# Altium schematic symbol library DROSEL_Synphaze.SchLib: 1 symbol
Pins are listed as number, name and electrical type; pins without a type are passive.

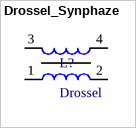
[diagram p0: symbol Drossel_Synphaze]

## Drossel_Synphaze
designator L?, comment Drossel
footprint Drossel_Synphaze
footprint T47x27x15
pins: 1, 2, 3, 4